# EAGLE library part AM2 (library radiotubes)
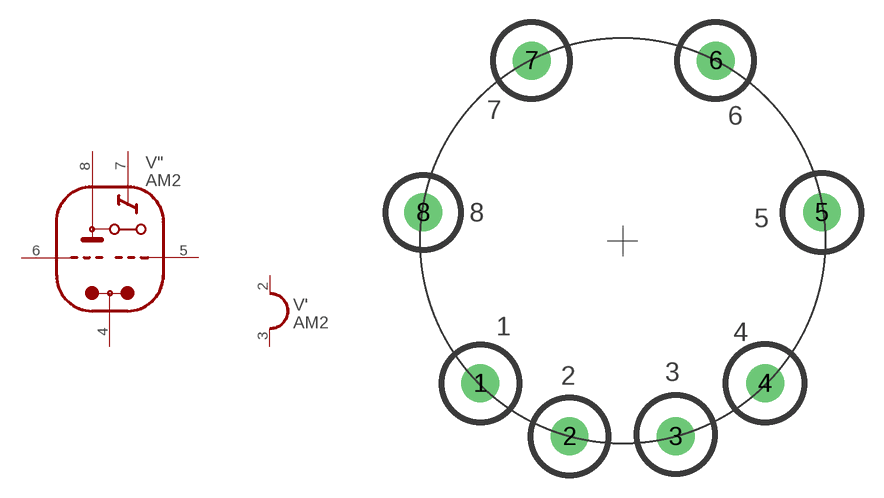
[diagram p131: symbol with the pads of P8; footprint P8]

Designator prefix V; gates "=AM2 '=HEATER_1

## AM2  [P8]
2  ':H1  pas
3  ':H2  pas
4  ":K  pas
5  ":GL  pas
6  ":GT  pas
7  ":L  pas
8  ":AT-ST  pas

## Footprint P8 (pad centres in mm)
drill 1.27 pad 2.54: 1 -9.525,-9.525; 2 -3.556,-13.081; 3 3.556,-13.081; 4 9.525,-9.525; 5 13.335,1.905; 6 6.223,12.065; 7 -6.096,12.065; 8 -13.335,1.905